# Altium footprint library FSUSB74UMX.PcbLib: 3 footprints
Each footprint in its own frame and in the unit in brackets; x right, y up, seen from the top. Pads: shape width x height; smd on the part's side, far side on the other; paste and mask are expansions set on the pad; w line width, h text height; cw(c..) or ccw(c..) is an arc to the next point about the centre after c.
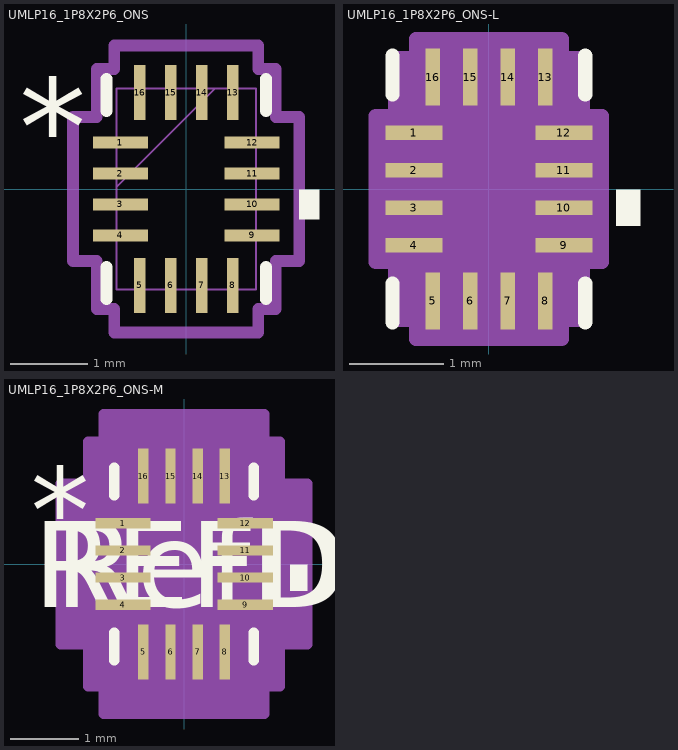
[diagram p0: the footprints below, top view; thin cyan lines are the x and y axes]

## UMLP16_1P8X2P6_ONS [mil]
pads (16):
  rect 28x6 smd paste+0 mask+0: 1(-33.5,23.62) 2(-33.5,7.87) 3(-33.5,-7.87) 4(-33.5,-23.62) 9(33.5,-23.62) 10(33.5,-7.87) 11(33.5,7.87) 12(33.5,23.62)
  rect 6x28 smd paste+0 mask+0: 5(-23.62,-49) 6(-7.87,-49) 7(7.87,-49) 8(23.62,-49) 13(23.62,49) 14(7.87,49) 15(-7.87,49) 16(-23.62,49)
Top Overlay:
  region: 57.5,-0.37 67.5,-0.37 67.5,-15.37 57.5,-15.37
  lines w6: -40.5,-56 -40.5,-39.72 ; -40.5,39.72 -40.5,56 ; 40.5,-56 40.5,-39.72 ; 40.5,39.72 40.5,56
  text "*" at -85,6.5 h50
Mechanical 13:
  lines w1: -35.5,1 14.5,51 ; -35.5,-51 -35.5,51 35.5,51 35.5,-51 -35.5,-51 ; -35.5,-27.62 -35.5,-19.62 -35.5,-27.62 ; -35.5,-11.87 -35.5,-3.87 -35.5,-11.87 ; -35.5,3.87 -35.5,11.87 -35.5,3.87 ; -35.5,19.62 -35.5,27.62 -35.5,19.62 ; -27.62,-51 -19.62,-51 -27.62,-51 ; -27.62,51 -19.62,51 -27.62,51 ; -11.87,-51 -3.87,-51 -11.87,-51 ; -11.87,51 -3.87,51 -11.87,51 ; 3.87,-51 11.87,-51 3.87,-51 ; 3.87,51 11.87,51 3.87,51 ; 19.62,-51 27.62,-51 19.62,-51 ; 19.62,51 27.62,51 19.62,51 ; 35.5,-27.62 35.5,-19.62 35.5,-27.62 ; 35.5,-11.87 35.5,-3.87 35.5,-11.87 ; 35.5,3.87 35.5,11.87 35.5,3.87 ; 35.5,19.62 35.5,27.62 35.5,19.62
  text "*" at -85,5 h50
Mechanical 15:
  lines w6: -57.5,-36.62 -57.5,36.62 -45.5,36.62 -45.5,61 -36.62,61 -36.62,73 36.62,73 36.62,61 45.5,61 45.5,36.62 57.5,36.62 57.5,-36.62 45.5,-36.62 45.5,-61 36.62,-61 36.62,-73 -36.62,-73 -36.62,-61 -45.5,-61 -45.5,-36.62 -57.5,-36.62
3D body "UMLP16_1P8X2P6_ONS.step": height 20.12, standoff 0, extent -35.51,-50.98 35.51,50.98

## UMLP16_1P8X2P6_ONS-L [mil]
pads (16):
  rect 24x6 smd paste+0 mask+0: 1(-31.5,23.62) 2(-31.5,7.87) 3(-31.5,-7.87) 4(-31.5,-23.62) 9(31.5,-23.62) 10(31.5,-7.87) 11(31.5,7.87) 12(31.5,23.62)
  rect 6x24 smd paste+0 mask+0: 5(-23.62,-47) 6(-7.87,-47) 7(7.87,-47) 8(23.62,-47) 13(23.62,47) 14(7.87,47) 15(-7.87,47) 16(-23.62,47)
Top Overlay:
  region: 53.5,-0.37 63.5,-0.37 63.5,-15.37 53.5,-15.37
  lines w6: -40.5,-56 -40.5,-39.72 ; -40.5,39.72 -40.5,56 ; 40.5,-56 40.5,-39.72 ; 40.5,39.72 40.5,56
Mechanical 13:
  lines w1: -35.5,1 14.5,51 ; -35.5,-51 -35.5,51 35.5,51 35.5,-51 -35.5,-51 ; -35.5,-27.62 -35.5,-19.62 -35.5,-27.62 ; -35.5,-11.87 -35.5,-3.87 -35.5,-11.87 ; -35.5,3.87 -35.5,11.87 -35.5,3.87 ; -35.5,19.62 -35.5,27.62 -35.5,19.62 ; -27.62,-51 -19.62,-51 -27.62,-51 ; -27.62,51 -19.62,51 -27.62,51 ; -11.87,-51 -3.87,-51 -11.87,-51 ; -11.87,51 -3.87,51 -11.87,51 ; 3.87,-51 11.87,-51 3.87,-51 ; 3.87,51 11.87,51 3.87,51 ; 19.62,-51 27.62,-51 19.62,-51 ; 19.62,51 27.62,51 19.62,51 ; 35.5,-27.62 35.5,-19.62 35.5,-27.62 ; 35.5,-11.87 35.5,-3.87 35.5,-11.87 ; 35.5,3.87 35.5,11.87 35.5,3.87 ; 35.5,19.62 35.5,27.62 35.5,19.62
  text "*" at -32,6.5 h50
Mechanical 15:
  region: -30.62,-55 -39.5,-55 -39.5,-30.62 -47.5,-30.62 -47.5,30.62 -39.5,30.62 -39.5,55 -30.62,55 -30.62,63 30.62,63 30.62,55 39.5,55 39.5,30.62 47.5,30.62 47.5,-30.62 39.5,-30.62 39.5,-55 30.62,-55 30.62,-63 -30.62,-63
  lines w6: -47.5,-30.62 -47.5,30.62 -39.5,30.62 -39.5,55 -30.62,55 -30.62,63 30.62,63 30.62,55 39.5,55 39.5,30.62 47.5,30.62 47.5,-30.62 39.5,-30.62 39.5,-55 30.62,-55 30.62,-63 -30.62,-63 -30.62,-55 -39.5,-55 -39.5,-30.62 -47.5,-30.62
3D body "UMLP16_1P8X2P6_ONS.step": height 20.12, standoff 0, extent -35.51,-50.98 35.51,50.98

## UMLP16_1P8X2P6_ONS-M [mil]
pads (16):
  rect 32x6 smd paste+0 mask+0: 1(-35.5,23.62) 2(-35.5,7.87) 3(-35.5,-7.87) 4(-35.5,-23.62) 9(35.5,-23.62) 10(35.5,-7.87) 11(35.5,7.87) 12(35.5,23.62)
  rect 6x32 smd paste+0 mask+0: 5(-23.62,-51) 6(-7.87,-51) 7(7.87,-51) 8(23.62,-51) 13(23.62,51) 14(7.87,51) 15(-7.87,51) 16(-23.62,51)
Top Overlay:
  region: 61.5,-0.37 71.5,-0.37 71.5,-15.37 61.5,-15.37
  lines w6: -40.5,-56 -40.5,-39.72 ; -40.5,39.72 -40.5,56 ; 40.5,-56 40.5,-39.72 ; 40.5,39.72 40.5,56
  text "*" at -89,6.5 h50
  text "RefDes" at -75,-25 h50
  text "REFDES" at -87.5,-25 h50
Mechanical 13:
  lines w1: -35.5,1 14.5,51 ; -35.5,-51 35.5,-51 35.5,51 -35.5,51 -35.5,-51 ; -35.5,-27.62 -35.5,-19.62 -35.5,-27.62 ; -35.5,-11.87 -35.5,-3.87 -35.5,-11.87 ; -35.5,3.87 -35.5,11.87 -35.5,3.87 ; -35.5,19.62 -35.5,27.62 -35.5,19.62 ; -27.62,-51 -19.62,-51 -27.62,-51 ; -27.62,51 -19.62,51 -27.62,51 ; -11.87,-51 -3.87,-51 -11.87,-51 ; -11.87,51 -3.87,51 -11.87,51 ; 3.87,-51 11.87,-51 3.87,-51 ; 3.87,51 11.87,51 3.87,51 ; 19.62,-51 27.62,-51 19.62,-51 ; 19.62,51 27.62,51 19.62,51 ; 35.5,-27.62 35.5,-19.62 35.5,-27.62 ; 35.5,-11.87 35.5,-3.87 35.5,-11.87 ; 35.5,3.87 35.5,11.87 35.5,3.87 ; 35.5,19.62 35.5,27.62 35.5,19.62
  text "*" at -32,6.5 h50
  text "RefDes2" at -87.5,-25 h50
Mechanical 15:
  region: -46.62,-71 -55.5,-71 -55.5,-46.62 -71.5,-46.62 -71.5,46.62 -55.5,46.62 -55.5,71 -46.62,71 -46.62,87 46.62,87 46.62,71 55.5,71 55.5,46.62 71.5,46.62 71.5,-46.62 55.5,-46.62 55.5,-71 46.62,-71 46.62,-87 -46.62,-87
  lines w6: -71.5,-46.62 -55.5,-46.62 -55.5,-71 -46.62,-71 -46.62,-87 46.62,-87 46.62,-71 55.5,-71 55.5,-46.62 71.5,-46.62 71.5,46.62 55.5,46.62 55.5,71 46.62,71 46.62,87 -46.62,87 -46.62,71 -55.5,71 -55.5,46.62 -71.5,46.62 -71.5,-46.62
3D body "UMLP16_1P8X2P6_ONS.step": height 20.12, standoff 0, extent -35.51,-50.98 35.51,50.98